# Altium schematic symbol library LM3478__.SchLib: 1 symbol
Pins are listed as number, name and electrical type; pins without a type are passive.

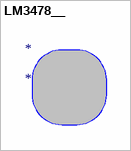
[diagram p0: symbol LM3478__]

## LM3478__
designator *